# Altium schematic symbol library display_interface_bridge.SchLib: 10 symbols
Pins are listed as number, name and electrical type; pins without a type are passive.

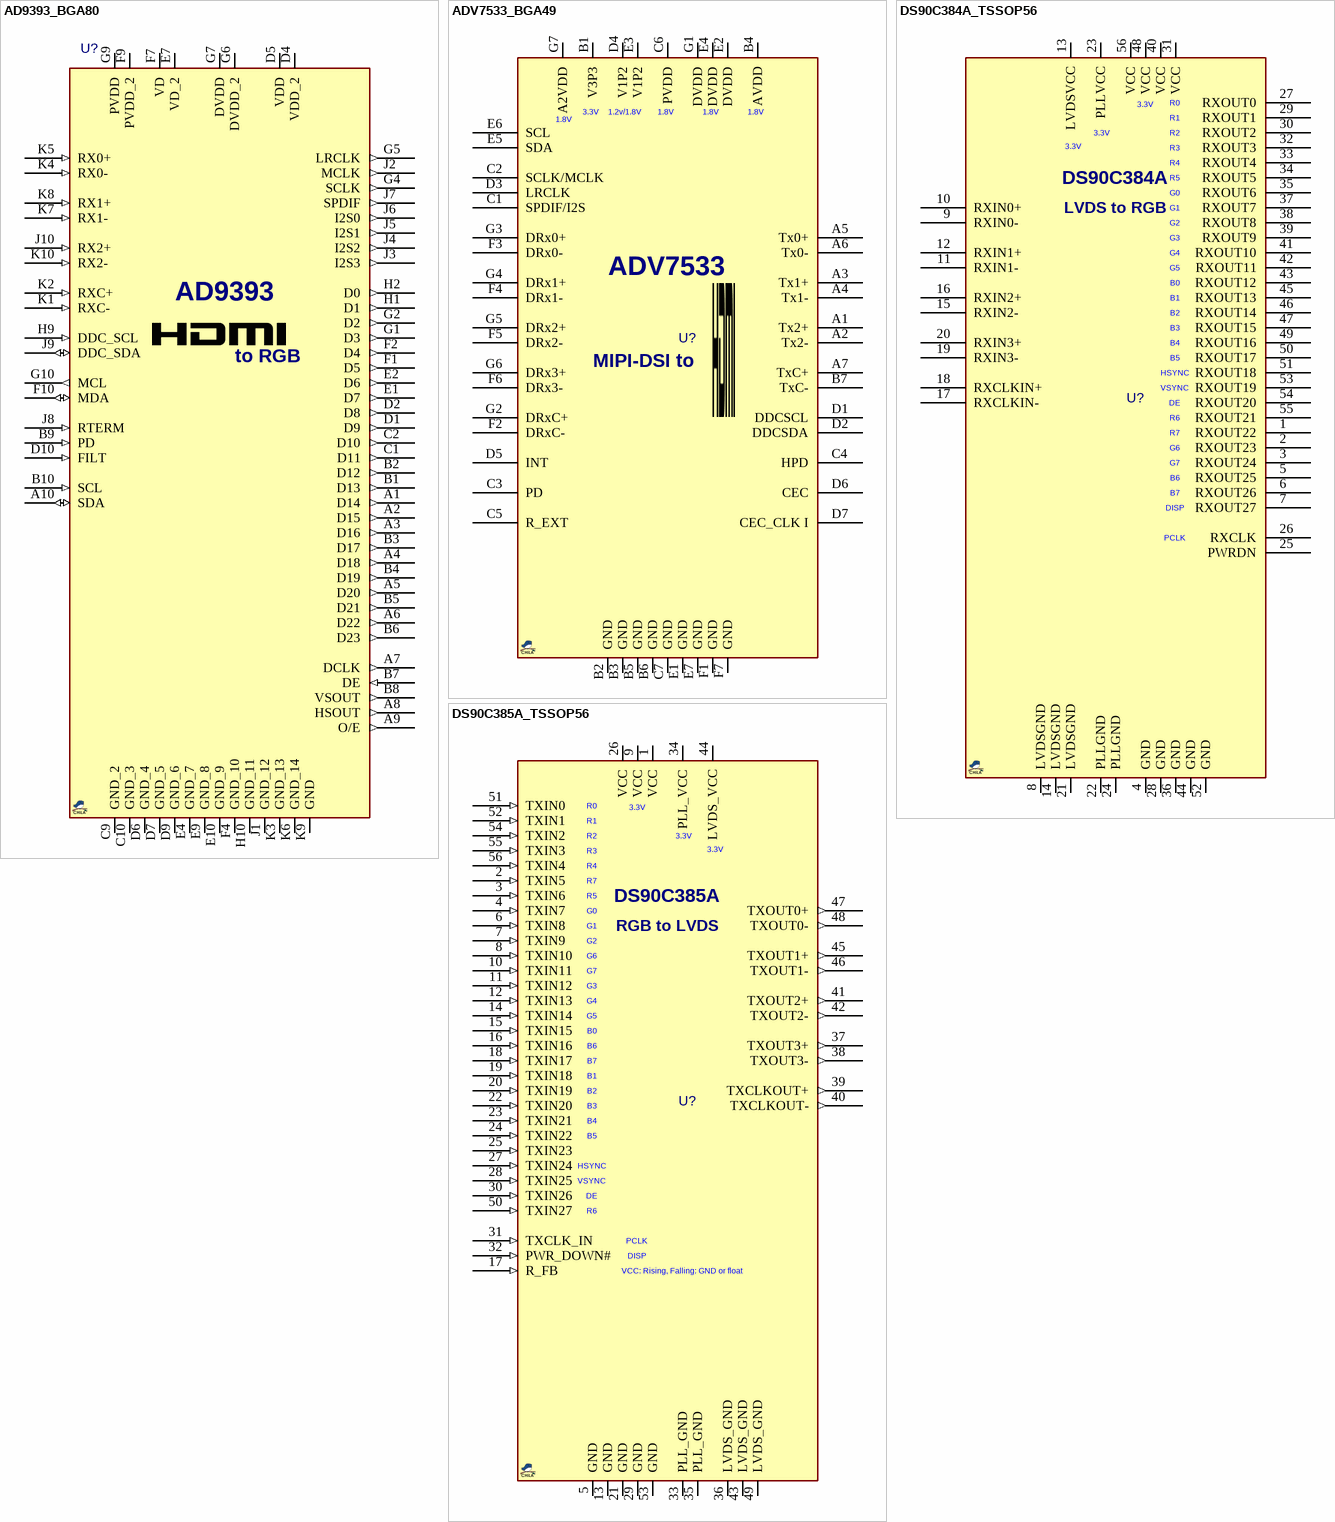
[diagram p0: symbols AD9393_BGA80 to DS90C385A_TSSOP56]

## AD9393_BGA80
designator U?, comment AD9393  (value not drawn)
HDMI/DVI to RGB DPI (dual), 80MHz, HDMI 1.2a, DVI 1.0, 1080p; MANF: Analog Devices; MANF_P#: AD9393BBCZ-80, AD9393BBCZRL-80; PARAM2: 1.8v, 3.3v, -10~+80°C; PARAM: 80MHz, HDMI 1.2a, DVI 1.0; PRICE: 5$; VALUE: AD9393; PACKAGE: CSPBGA-76
footprint BGA50_76_S6 (CSPBGA-76, BC-76-2, 6x6, 0.5mm ptich)
pins: A1 D14 (out), A2 D15 (out), A3 D16 (out), A4 D18 (out), A5 D20 (out), A6 D22 (out), A7 DCLK (out), A8 HSOUT (out), A9 O/E (out), A10 SDA (io), B1 D13 (out), B2 D12 (out), B3 D17 (out), B4 D19 (out), B5 D21 (out), B6 D23 (out), B7 DE (in), B8 VSOUT (out), B9 PD (in), B10 SCL (in), C1 D11 (out), C2 D10 (out), C9 GND_2, C10 GND_3, D1 D9 (out), D2 D8 (out), D4 VDD_2 (power), D5 VDD (power), D6 GND_4, D7 GND_5, D9 GND_6, D10 FILT (in), E1 D7 (out), E2 D6 (out), E4 GND_7, E7 VD_2 (power), E9 GND_8, E10 GND_9, F1 D5 (out), F2 D4 (out), F4 GND_10, F7 VD (power), F9 PVDD_2 (power), F10 MDA (io), G1 D3 (out), G2 D2 (out), G4 SCLK (out), G5 LRCLK (out), G6 DVDD_2 (power), G7 DVDD (power), G9 PVDD (power), G10 MCL (out), H1 D1 (out), H2 D0 (out), H9 DDC_SCL (in), H10 GND_11, J1 GND_12, J2 MCLK (out), J3 I2S3 (out), J4 I2S2 (out), J5 I2S1 (out), J6 I2S0 (out), J7 SPDIF (out), J8 RTERM (in), J9 DDC_SDA (io), J10 RX2+ (in), K1 RXC- (in), K2 RXC+ (in), K3 GND_13, K4 RX0- (in), K5 RX0+ (in), K6 GND_14, K7 RX1- (in), K8 RX1+ (in), K9 GND, K10 RX2- (in)
text: to RGB

## ADV7533_BGA49
designator U?, comment ADV7533  (value not drawn)
MIPI-DSI Receiver, HDMI Transmitter, HDMI v1.3, 80MHz, 480i~1080p; MANF: Analog Devices; MANF_P#: ADV7533BCBZ; PARAM2: 1.8v, 1.2v, 3.3v, -10~85°C; PARAM: HDMI v1.3, 80MHz, 480i~1080p; PRICE: 5$; VALUE: ADV7533; PACKAGE: BGA-49
footprint QFN50_64T (LFCSP_VQ, MO-220-VMMD-4, MO-220-WNJR-5(JEDEC), RGC S-PQFP-N64 (TI), 9X9mm, 0.5mm)
pins: A1 Tx2+, A2 Tx2-, A3 Tx1+, A4 Tx1-, A5 Tx0+, A6 Tx0-, A7 TxC+, B1 V3P3, B2 GND, B3 GND, B4 AVDD, B5 GND, B6 GND, B7 TxC-, C1 SPDIF/I2S, C2 SCLK/MCLK, C3 PD, C4 HPD, C5 R_EXT, C6 PVDD, C7 GND, D1 DDCSCL, D2 DDCSDA, D3 LRCLK, D4 V1P2, D5 INT, D6 CEC, D7 CEC_CLK I, E1 GND, E2 DVDD, E3 V1P2, E4 DVDD, E5 SDA, E6 SCL, E7 GND, F1 GND, F2 DRxC-, F3 DRx0-, F4 DRx1-, F5 DRx2-, F6 DRx3-, F7 GND, G1 DVDD, G2 DRxC+, G3 DRx0+, G4 DRx1+, G5 DRx2+, G6 DRx3+, G7 A2VDD
text: 3.3V; 1.2v/1.8V; 1.8V; MIPI-DSI to

## DS90C384A_TSSOP56
designator U?, comment DS90C384A  (value not drawn)
LVDS receiver, RGB transmitter; MANF: Texas Instruments; MANF_P#: DS90C384AMT; PARAM2: 3.3V; PARAM: -; PRICE: 5$; VALUE: DS90C384A; PACKAGE: TSSOP-56
footprint SOG50_56 (DGG TSSOP (TI), MO-153-EE (JEDEC), 56Lead, pitch: 0.5mm, 14x6.1x1.2mm)
pins: 1 RXOUT22, 2 RXOUT23, 3 RXOUT24, 4 GND, 5 RXOUT25, 6 RXOUT26, 7 RXOUT27, 8 LVDSGND, 9 RXIN0-, 10 RXIN0+, 11 RXIN1-, 12 RXIN1+, 13 LVDSVCC, 14 LVDSGND, 15 RXIN2-, 16 RXIN2+, 17 RXCLKIN-, 18 RXCLKIN+, 19 RXIN3-, 20 RXIN3+, 21 LVDSGND, 22 PLLGND, 23 PLLVCC, 24 PLLGND, 25 PWRDN, 26 RXCLK, 27 RXOUT0, 28 GND, 29 RXOUT1, 30 RXOUT2, 31 VCC, 32 RXOUT3, 33 RXOUT4, 34 RXOUT5, 35 RXOUT6, 36 GND, 37 RXOUT7, 38 RXOUT8, 39 RXOUT9, 40 VCC, 41 RXOUT10, 42 RXOUT11, 43 RXOUT12, 44 GND, 45 RXOUT13, 46 RXOUT14, 47 RXOUT15, 48 VCC, 49 RXOUT16, 50 RXOUT17, 51 RXOUT18, 52 GND, 53 RXOUT19, 54 RXOUT20, 55 RXOUT21, 56 VCC
text: R0; R1; R2; R3; R4; R5; G0; LVDS to RGB; G1; G2; G3; G4; G5; B0; B1; B2; B3; B4; B5; HSYNC; VSYNC; DE; R6; R7; G6; G7; B6; B7; DISP; PCLK

## DS90C385A_TSSOP56
designator U?, comment DS90C385A  (value not drawn)
RGB receiver, LVDS transmitter, 87.5MHz, 24-bit video inputs; MANF: Texas Instruments; MANF_P#: DS90C385AMT, DS90C385AMTX; PARAM2: 3.3V; PARAM: 87.5MHz, 24-bit; PRICE: 5$; VALUE: DS90C385A; PACKAGE: TSSOP-56
footprint SOG50_56 (DGG TSSOP (TI), MO-153-EE (JEDEC), 56Lead, pitch: 0.5mm, 14x6.1x1.2mm)
pins: 1 VCC (power), 2 TXIN5 (in), 3 TXIN6 (in), 4 TXIN7 (in), 5 GND (power), 6 TXIN8 (in), 7 TXIN9 (in), 8 TXIN10 (in), 9 VCC (power), 10 TXIN11 (in), 11 TXIN12 (in), 12 TXIN13 (in), 13 GND (power), 14 TXIN14 (in), 15 TXIN15 (in), 16 TXIN16 (in), 17 R_FB (in), 18 TXIN17 (in), 19 TXIN18 (in), 20 TXIN19 (in), 21 GND (power), 22 TXIN20 (in), 23 TXIN21 (in), 24 TXIN22 (in), 25 TXIN23 (in), 26 VCC (power), 27 TXIN24 (in), 28 TXIN25 (in), 29 GND (power), 30 TXIN26 (in), 31 TXCLK_IN (in), 32 PWR_DOWN# (in), 33 PLL_GND (power), 34 PLL_VCC (power), 35 PLL_GND (power), 36 LVDS_GND (power), 37 TXOUT3+ (out), 38 TXOUT3- (out), 39 TXCLKOUT+ (out), 40 TXCLKOUT- (out), 41 TXOUT2+ (out), 42 TXOUT2- (out), 43 LVDS_GND (power), 44 LVDS_VCC (power), 45 TXOUT1+ (out), 46 TXOUT1- (out), 47 TXOUT0+ (out), 48 TXOUT0- (out), 49 LVDS_GND (power), 50 TXIN27 (in), 51 TXIN0 (in), 52 TXIN1 (in), 53 GND (power), 54 TXIN2 (in), 55 TXIN3 (in), 56 TXIN4 (in)
text: R0; R1; R2; R3; R4; R7; R5; G0; G1; RGB to LVDS; G2; G6; G7; G3; G4; G5; B0; B6; B7; B1; B2; B3; B4; B5; HSYNC; VSYNC; DE; R6; PCLK; DISP; VCC: Rising, Falling: GND or float

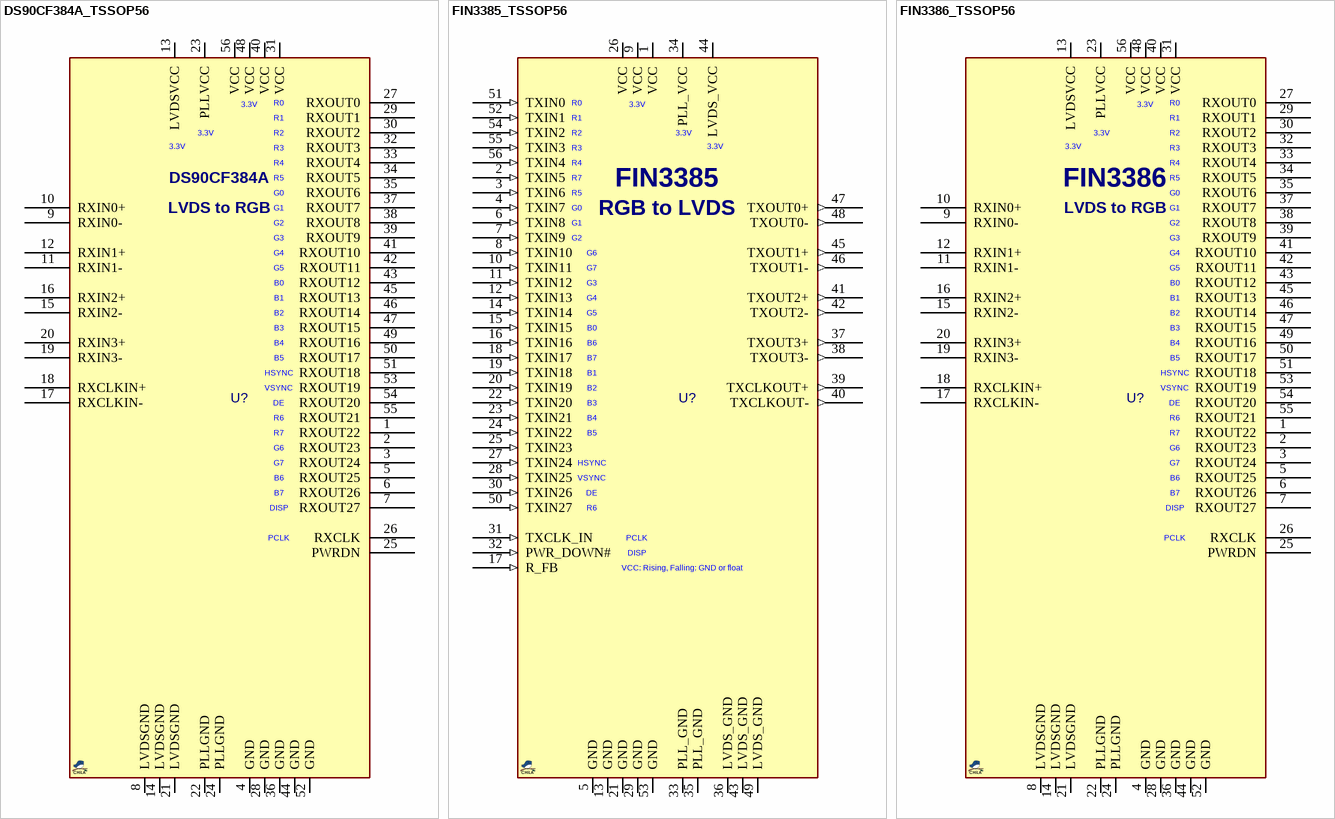
[diagram p1: symbols DS90CF384A_TSSOP56 to FIN3386_TSSOP56]

## DS90CF384A_TSSOP56
designator U?, comment DS90CF384A  (value not drawn)
LVDS receiver, RGB transmitter; MANF: Texas Instruments; MANF_P#: DS90CF384AMTD; PARAM2: 3.3V; PARAM: -; PRICE: 5$; VALUE: DS90CF384A; PACKAGE: TSSOP-56
footprint SOG50_56 (DGG TSSOP (TI), MO-153-EE (JEDEC), 56Lead, pitch: 0.5mm, 14x6.1x1.2mm)
pins: 1 RXOUT22, 2 RXOUT23, 3 RXOUT24, 4 GND, 5 RXOUT25, 6 RXOUT26, 7 RXOUT27, 8 LVDSGND, 9 RXIN0-, 10 RXIN0+, 11 RXIN1-, 12 RXIN1+, 13 LVDSVCC, 14 LVDSGND, 15 RXIN2-, 16 RXIN2+, 17 RXCLKIN-, 18 RXCLKIN+, 19 RXIN3-, 20 RXIN3+, 21 LVDSGND, 22 PLLGND, 23 PLLVCC, 24 PLLGND, 25 PWRDN, 26 RXCLK, 27 RXOUT0, 28 GND, 29 RXOUT1, 30 RXOUT2, 31 VCC, 32 RXOUT3, 33 RXOUT4, 34 RXOUT5, 35 RXOUT6, 36 GND, 37 RXOUT7, 38 RXOUT8, 39 RXOUT9, 40 VCC, 41 RXOUT10, 42 RXOUT11, 43 RXOUT12, 44 GND, 45 RXOUT13, 46 RXOUT14, 47 RXOUT15, 48 VCC, 49 RXOUT16, 50 RXOUT17, 51 RXOUT18, 52 GND, 53 RXOUT19, 54 RXOUT20, 55 RXOUT21, 56 VCC
text: R0; R1; R2; R3; R4; R5; G0; LVDS to RGB; G1; G2; G3; G4; G5; B0; B1; B2; B3; B4; B5; HSYNC; VSYNC; DE; R6; R7; G6; G7; B6; B7; DISP; PCLK

## FIN3385_TSSOP56
designator U?, comment FIN3385  (value not drawn)
RGB receiver, LVDS transmitter, 87.5MHz, 24-bit video inputs; MANF: ON; MANF_P#: FIN3385MTD, FIN3385MTDX; PARAM2: 3.3V; PARAM: 87.5MHz, 24-bit; PRICE: 5$; VALUE: FIN3385; PACKAGE: TSSOP-56
footprint SOG50_56 (DGG TSSOP (TI), MO-153-EE (JEDEC), 56Lead, pitch: 0.5mm, 14x6.1x1.2mm)
pins: 1 VCC (power), 2 TXIN5 (in), 3 TXIN6 (in), 4 TXIN7 (in), 5 GND (power), 6 TXIN8 (in), 7 TXIN9 (in), 8 TXIN10 (in), 9 VCC (power), 10 TXIN11 (in), 11 TXIN12 (in), 12 TXIN13 (in), 13 GND (power), 14 TXIN14 (in), 15 TXIN15 (in), 16 TXIN16 (in), 17 R_FB (in), 18 TXIN17 (in), 19 TXIN18 (in), 20 TXIN19 (in), 21 GND (power), 22 TXIN20 (in), 23 TXIN21 (in), 24 TXIN22 (in), 25 TXIN23 (in), 26 VCC (power), 27 TXIN24 (in), 28 TXIN25 (in), 29 GND (power), 30 TXIN26 (in), 31 TXCLK_IN (in), 32 PWR_DOWN# (in), 33 PLL_GND (power), 34 PLL_VCC (power), 35 PLL_GND (power), 36 LVDS_GND (power), 37 TXOUT3+ (out), 38 TXOUT3- (out), 39 TXCLKOUT+ (out), 40 TXCLKOUT- (out), 41 TXOUT2+ (out), 42 TXOUT2- (out), 43 LVDS_GND (power), 44 LVDS_VCC (power), 45 TXOUT1+ (out), 46 TXOUT1- (out), 47 TXOUT0+ (out), 48 TXOUT0- (out), 49 LVDS_GND (power), 50 TXIN27 (in), 51 TXIN0 (in), 52 TXIN1 (in), 53 GND (power), 54 TXIN2 (in), 55 TXIN3 (in), 56 TXIN4 (in)
text: R0; R1; R2; R3; R4; R7; R5; G0; RGB to LVDS; G1; G2; G6; G7; G3; G4; G5; B0; B6; B7; B1; B2; B3; B4; B5; HSYNC; VSYNC; DE; R6; PCLK; DISP; VCC: Rising, Falling: GND or float

## FIN3386_TSSOP56
designator U?, comment FIN3386  (value not drawn)
LVDS receiver, RGB transmitter, 87.5MHz; MANF: ON; MANF_P#: FIN3386MTD, FIN3386MTDX; PARAM2: 3.3V; PARAM: -; PRICE: 5$; VALUE: FIN3386; PACKAGE: TSSOP-56
footprint SOG50_56 (DGG TSSOP (TI), MO-153-EE (JEDEC), 56Lead, pitch: 0.5mm, 14x6.1x1.2mm)
pins: 1 RXOUT22, 2 RXOUT23, 3 RXOUT24, 4 GND, 5 RXOUT25, 6 RXOUT26, 7 RXOUT27, 8 LVDSGND, 9 RXIN0-, 10 RXIN0+, 11 RXIN1-, 12 RXIN1+, 13 LVDSVCC, 14 LVDSGND, 15 RXIN2-, 16 RXIN2+, 17 RXCLKIN-, 18 RXCLKIN+, 19 RXIN3-, 20 RXIN3+, 21 LVDSGND, 22 PLLGND, 23 PLLVCC, 24 PLLGND, 25 PWRDN, 26 RXCLK, 27 RXOUT0, 28 GND, 29 RXOUT1, 30 RXOUT2, 31 VCC, 32 RXOUT3, 33 RXOUT4, 34 RXOUT5, 35 RXOUT6, 36 GND, 37 RXOUT7, 38 RXOUT8, 39 RXOUT9, 40 VCC, 41 RXOUT10, 42 RXOUT11, 43 RXOUT12, 44 GND, 45 RXOUT13, 46 RXOUT14, 47 RXOUT15, 48 VCC, 49 RXOUT16, 50 RXOUT17, 51 RXOUT18, 52 GND, 53 RXOUT19, 54 RXOUT20, 55 RXOUT21, 56 VCC
text: R0; R1; R2; R3; R4; R5; G0; LVDS to RGB; G1; G2; G3; G4; G5; B0; B1; B2; B3; B4; B5; HSYNC; VSYNC; DE; R6; R7; G6; G7; B6; B7; DISP; PCLK

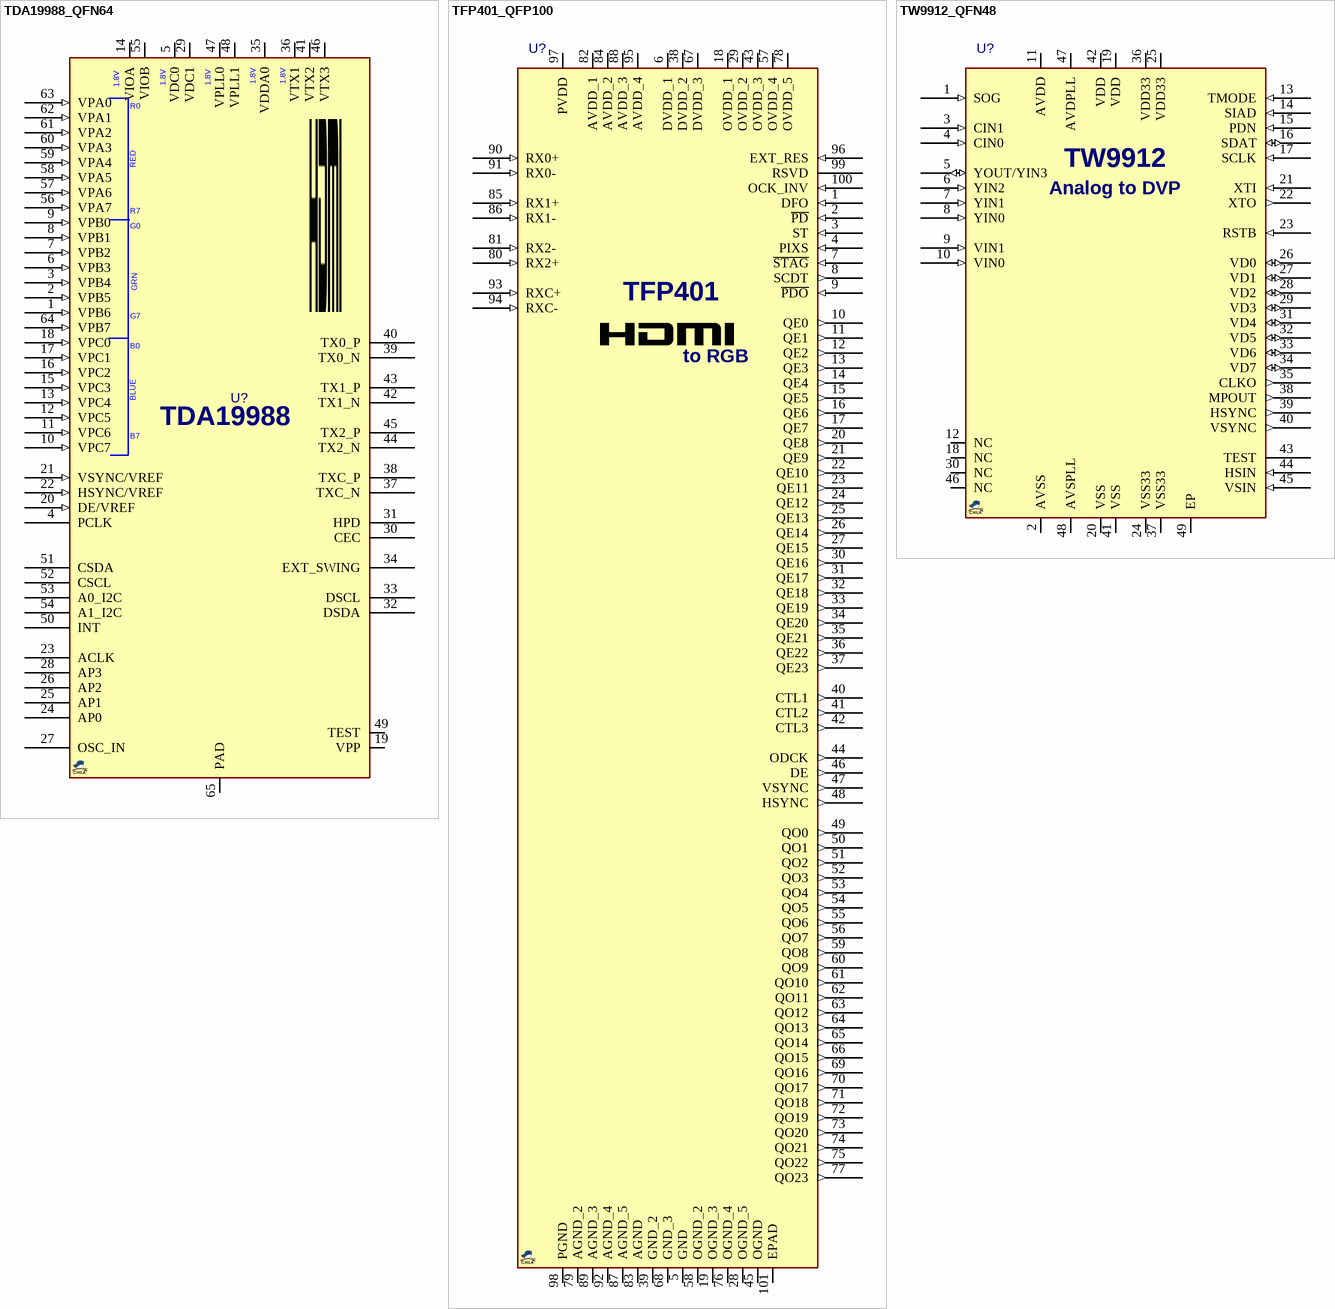
[diagram p2: symbols TDA19988_QFN64 to TW9912_QFN48]

## TDA19988_QFN64
designator U?, comment TDA19988  (value not drawn)
RGB receiver, HDMI transmitter, Low power, 150Mbps, 3X8-bit video inputs, HDCP&CEC support; MANF: NXP; MANF_P#: TDA19988BHN/C1,557; PARAM2: 1.8V; PARAM: 150Mbps, 3X8-bit video inputs, HDCP&CEC support; PRICE: 5$; VALUE: TDA19988; PACKAGE: QFN-64
footprint QFN50_64T (LFCSP_VQ, MO-220-VMMD-4, MO-220-WNJR-5(JEDEC), RGC S-PQFP-N64 (TI), 9X9mm, 0.5mm)
pins: 1 VPB6 (in), 2 VPB5 (in), 3 VPB4 (in), 4 PCLK, 5 VDC0 (power), 6 VPB3 (in), 7 VPB2 (in), 8 VPB1 (in), 9 VPB0 (in), 10 VPC7 (in), 11 VPC6 (in), 12 VPC5 (in), 13 VPC4 (in), 14 VIOA (power), 15 VPC3 (in), 16 VPC2 (in), 17 VPC1 (in), 18 VPC0 (in), 19 VPP (power), 20 DE/VREF (in), 21 VSYNC/VREF (in), 22 HSYNC/VREF (in), 23 ACLK, 24 AP0, 25 AP1, 26 AP2, 27 OSC_IN, 28 AP3, 29 VDC1 (power), 30 CEC, 31 HPD, 32 DSDA, 33 DSCL, 34 EXT_SWING, 35 VDDA0 (power), 36 VTX1 (power), 37 TXC_N, 38 TXC_P, 39 TX0_N, 40 TX0_P, 41 VTX2 (power), 42 TX1_N, 43 TX1_P, 44 TX2_N, 45 TX2_P, 46 VTX3 (power), 47 VPLL0 (power), 48 VPLL1 (power), 49 TEST (power), 50 INT, 51 CSDA, 52 CSCL, 53 A0_I2C (power), 54 A1_I2C (power), 55 VIOB, 56 VPA7 (in), 57 VPA6 (in), 58 VPA5 (in), 59 VPA4 (in), 60 VPA3 (in), 61 VPA2 (in), 62 VPA1 (in), 63 VPA0 (in), 64 VPB7 (in), 65 PAD
text: R0; RED; R7; G0; GRN; G7; B0; BLUE; B7

## TFP401_QFP100
designator U?, comment TFP401  (value not drawn)
HDMI/DVI to RGB DPI (dual), 165MHz, 1080p; MANF: Texas Instruments; MANF_P#: TFP401APZP; PARAM2: 3.3v, 0~70°C; PARAM: 165MHz, 1080p; PRICE: 6$; VALUE: TFP401; PACKAGE: HTQFP-100
footprint QFG50_100T (LQFP100P, 14.0x14.0mm, Pitch 0.5mm)
pins: 1 DFO (in), 2 ~{PD} (in), 3 ST (in), 4 PIXS (in), 5 GND, 6 DVDD_1 (power), 7 ~{STAG} (in), 8 SCDT (out), 9 ~{PDO} (in), 10 QE0 (out), 11 QE1 (out), 12 QE2 (out), 13 QE3 (out), 14 QE4 (out), 15 QE5 (out), 16 QE6 (out), 17 QE7 (out), 18 OVDD_1 (power), 19 OGND_3, 20 QE8 (out), 21 QE9 (out), 22 QE10 (out), 23 QE11 (out), 24 QE12 (out), 25 QE13 (out), 26 QE14 (out), 27 QE15 (out), 28 OGND_5, 29 OVDD_2 (power), 30 QE16 (out), 31 QE17 (out), 32 QE18 (out), 33 QE19 (out), 34 QE20 (out), 35 QE21 (out), 36 QE22 (out), 37 QE23 (out), 38 DVDD_2 (power), 39 GND_2, 40 CTL1 (out), 41 CTL2 (out), 42 CTL3 (out), 43 OVDD_3 (power), 44 ODCK (out), 45 OGND, 46 DE (out), 47 VSYNC (out), 48 HSYNC (out), 49 QO0 (out), 50 QO1 (out), 51 QO2 (out), 52 QO3 (out), 53 QO4 (out), 54 QO5 (out), 55 QO6 (out), 56 QO7 (out), 57 OVDD_4 (power), 58 OGND_2, 59 QO8 (out), 60 QO9 (out), 61 QO10 (out), 62 QO11 (out), 63 QO12 (out), 64 QO13 (out), 65 QO14 (out), 66 QO15 (out), 67 DVDD_3 (power), 68 GND_3, 69 QO16 (out), 70 QO17 (out), 71 QO18 (out), 72 QO19 (out), 73 QO20 (out), 74 QO21 (out), 75 QO22 (out), 76 OGND_4, 77 QO23 (out), 78 OVDD_5 (power), 79 AGND_2, 80 RX2+ (in), 81 RX2- (in), 82 AVDD_1 (power), 83 AGND, 84 AVDD_2 (power), 85 RX1+ (in), 86 RX1- (in), 87 AGND_5, 88 AVDD_3 (power), 89 AGND_3, 90 RX0+ (in), 91 RX0- (in), 92 AGND_4, 93 RXC+ (in), 94 RXC- (in), 95 AVDD_4 (power), 96 EXT_RES (in), 97 PVDD (power), 98 PGND, 99 RSVD, 100 OCK_INV (in), 101 EPAD
text: to RGB

## TW9912_QFN48
designator U?, comment TW9912  (value not drawn)
Analog to DVP, NTSC, PAL, SECAM; MANF: Renesas; MANF_P#: TW9912-NA3-CR; PARAM2: 1.8v, 3.3v, -40~+85°C; PARAM: NTSC, PAL, SECAM; PRICE: 4$; VALUE: TW9912; PACKAGE: QFN-48
footprint QFN50_48T (CP-48, UFQFPN48, RGZ S-PQFP-N48, S-PWQFN-N48, MO-220-VKKD-2(JEDEC), 7X7mm, 0.5mm)
pins: 1 SOG (in), 2 AVSS, 3 CIN1 (in), 4 CIN0 (in), 5 YOUT/YIN3 (io), 6 YIN2 (in), 7 YIN1 (in), 8 YIN0 (in), 9 VIN1 (in), 10 VIN0 (in), 11 AVDD (power), 12 NC, 13 TMODE (in), 14 SIAD (in), 15 PDN (in), 16 SDAT (io), 17 SCLK (in), 18 NC, 19 VDD (power), 20 VSS, 21 XTI (in), 22 XTO (out), 23 RSTB (in), 24 VSS33, 25 VDD33, 26 VD0 (io), 27 VD1 (io), 28 VD2 (io), 29 VD3 (io), 30 NC, 31 VD4 (io), 32 VD5 (io), 33 VD6 (io), 34 VD7 (io), 35 CLKO (out), 36 VDD33, 37 VSS33, 38 MPOUT (out), 39 HSYNC (out), 40 VSYNC (out), 41 VSS, 42 VDD (power), 43 TEST, 44 HSIN (in), 45 VSIN (in), 46 NC, 47 AVDPLL, 48 AVSPLL, 49 EP
text: Analog to DVP